# Altium schematic symbol library Res PTH.SchLib: 1 symbol
Pins are listed as number, name and electrical type; pins without a type are passive.

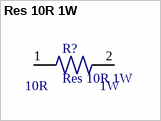
[diagram p0: symbol Res 10R 1W]

## Res 10R 1W
designator R?  Power: 1W  Resistance: 10R
10 ±5% 1W Axial Fusible Chip Resistor RoHS; Manufacturer: CCO (Chian Chia Elec); Mfr.Part #: FR1W-10Ω±5%; ComponentLink1Description: Datasheet; ComponentLink1URL: https://datasheet.lcsc.com/szlcsc/1810311132_CCO-Chian-Chia-Elec-FR1W-10R-5_C209743.pdf; LCSC Part #: C209743
footprint PCBComponent_1
pins: 1, 2